# EAGLE library part TCD1209D_MODULE_1.0 (library MODULES)
PCB layout for the TCD1209D sensor module.
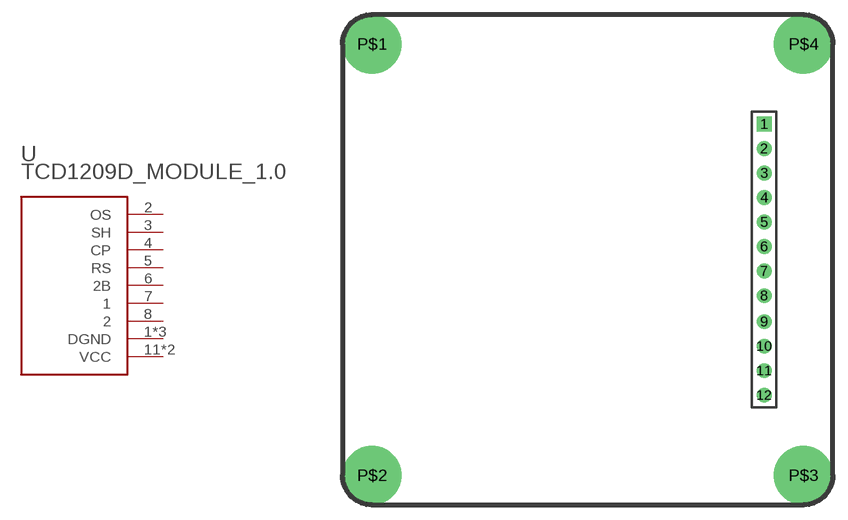
[diagram p0: symbol with the pads of SENSOR_MODULE_TCD1209D; footprint SENSOR_MODULE_TCD1209D]

Designator prefix U

## TCD1209D_MODULE_1.0  [SENSOR_MODULE_TCD1209D]
1  DGND
2  OS
3  SH
4  CP
5  RS
6  2B
7  1
8  2
9  DGND
10  DGND
11  VCC
12  VCC

## Footprint SENSOR_MODULE_TCD1209D (pad centres in mm)
drill 1 pad 1.5 square: 1 18.001,13.84
drill 1 pad 1.5: 2 18.001,11.34; 3 18.001,8.84; 4 18.001,6.34; 5 18.001,3.84; 6 18.001,1.34; 7 18.001,-1.16; 8 18.001,-3.66; 9 18.001,-6.32; 10 18.001,-8.82; 11 18.001,-11.32; 12 18.001,-13.82
drill 3 pad 6: P$1 -22,22; P$2 -22,-22; P$3 22,-22; P$4 22,22